# EAGLE library part 74LVC4245A (library Z_GessIOMod)
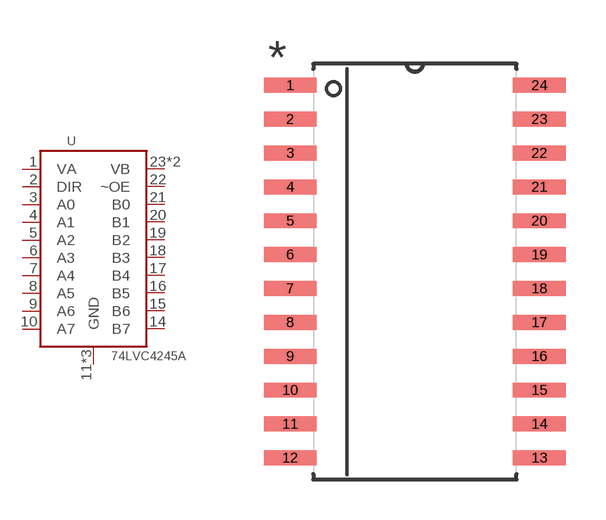
[diagram p11: symbol with the pads of SOIC127P1030X265-24N; footprint SOIC127P1030X265-24N]

Designator prefix -

## 74LVC4245A  [SOIC127P1030X265-24N]
1  VA  sup
2  DIR  in
3  A0
4  A1
5  A2
6  A3
7  A4
8  A5
9  A6
10  A7
11  GND  sup
12  GND  sup
13  GND  sup
14  B7
15  B6
16  B5
17  B4
18  B3
19  B2
20  B1
21  B0
22  ~OE  in
23  VB  sup
24  VB  sup

## Footprint SOIC127P1030X265-24N (pad centres in mm)
smd 1.981 x 0.559: 1 -4.674,6.985; 2 -4.674,5.715; 3 -4.674,4.445; 4 -4.674,3.175; 5 -4.674,1.905; 6 -4.674,0.635; 7 -4.674,-0.635; 8 -4.674,-1.905; 9 -4.674,-3.175; 10 -4.674,-4.445; 11 -4.674,-5.715; 12 -4.674,-6.985; 13 4.674,-6.985; 14 4.674,-5.715; 15 4.674,-4.445; 16 4.674,-3.175; 17 4.674,-1.905; 18 4.674,-0.635; 19 4.674,0.635; 20 4.674,1.905; 21 4.674,3.175; 22 4.674,4.445; 23 4.674,5.715; 24 4.674,6.985